# Altium schematic symbol library 10cl010eye144.SchLib: 2 symbols
Pins are listed as number, name and electrical type; pins without a type are passive.

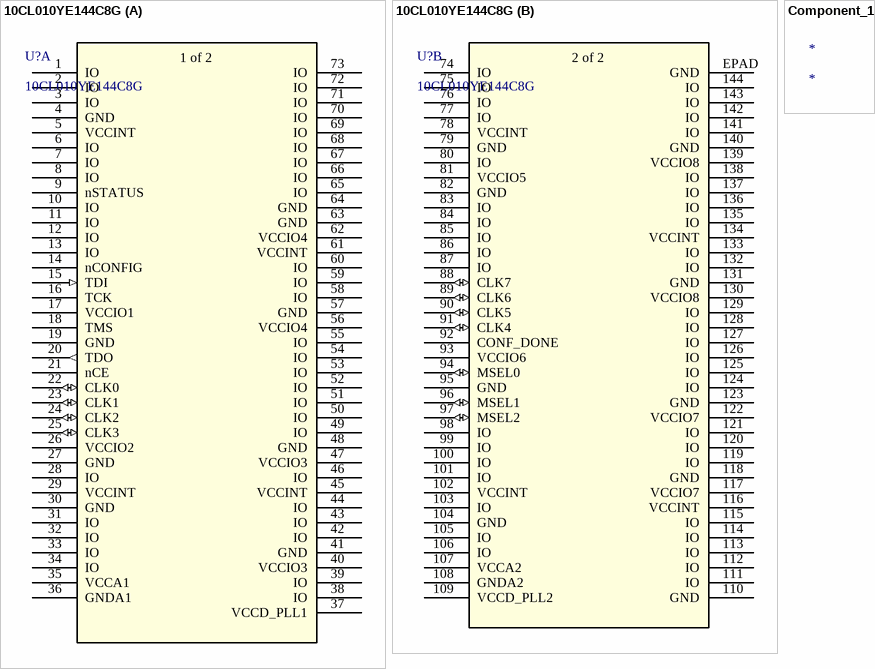
[diagram p0: symbols 10CL010YE144C8G to Component_1]

## 10CL010YE144C8G
designator U?
No Description Available; Vendor: Intel; Built_By: EMA_Cory; SourceLibrary: Intel_2020-07-08; Datasheet: https://www.mouser.com/datasheet/2/612/c10lp-51001-1114189.pdf; Manufacturer_Part_Number: 10CL010YE144C8G; Copyright: Copyright (C) 2018 Accelerated Designs. All rights reserved; RefDes: RefDes; Type: DEV
footprint EQFP144_A-1P65_D2-6P7_INT
part A pins: 1 IO, 2 IO, 3 IO, 4 GND, 5 VCCINT (power), 6 IO, 7 IO, 8 IO, 9 nSTATUS, 10 IO, 11 IO, 12 IO, 13 IO, 14 nCONFIG, 15 TDI (in), 16 TCK, 17 VCCIO1 (power), 18 TMS, 19 GND, 20 TDO (out), 21 nCE, 22 CLK0 (io), 23 CLK1 (io), 24 CLK2 (io), 25 CLK3 (io), 26 VCCIO2 (power), 27 GND, 28 IO, 29 VCCINT (power), 30 GND, 31 IO, 32 IO, 33 IO, 34 IO, 35 VCCA1 (power), 36 GNDA1, 37 VCCD_PLL1 (power), 38 IO, 39 IO, 40 VCCIO3 (power), 41 GND, 42 IO, 43 IO, 44 IO, 45 VCCINT (power), 46 IO, 47 VCCIO3 (power), 48 GND, 49 IO, 50 IO, 51 IO, 52 IO, 53 IO, 54 IO, 55 IO, 56 VCCIO4 (power), 57 GND, 58 IO, 59 IO, 60 IO, 61 VCCINT (power), 62 VCCIO4 (power), 63 GND, 64 GND, 65 IO, 66 IO, 67 IO, 68 IO, 69 IO, 70 IO, 71 IO, 72 IO, 73 IO
part B pins: 74 IO, 75 IO, 76 IO, 77 IO, 78 VCCINT (power), 79 GND, 80 IO, 81 VCCIO5 (power), 82 GND, 83 IO, 84 IO, 85 IO, 86 IO, 87 IO, 88 CLK7 (io), 89 CLK6 (io), 90 CLK5 (io), 91 CLK4 (io), 92 CONF_DONE, 93 VCCIO6 (power), 94 MSEL0 (io), 95 GND, 96 MSEL1 (io), 97 MSEL2 (io), 98 IO, 99 IO, 100 IO, 101 IO, 102 VCCINT (power), 103 IO, 104 GND, 105 IO, 106 IO, 107 VCCA2 (power), 108 GNDA2, 109 VCCD_PLL2 (power), 110 GND, 111 IO, 112 IO, 113 IO, 114 IO, 115 IO, 116 VCCINT (power), 117 VCCIO7 (power), 118 GND, 119 IO, 120 IO, 121 IO, 122 VCCIO7 (power), 123 GND, 124 IO, 125 IO, 126 IO, 127 IO, 128 IO, 129 IO, 130 VCCIO8 (power), 131 GND, 132 IO, 133 IO, 134 VCCINT (power), 135 IO, 136 IO, 137 IO, 138 IO, 139 VCCIO8 (power), 140 GND, 141 IO, 142 IO, 143 IO, 144 IO, EPAD GND
part A text: 1 of 2
part B text: 2 of 2

## Component_1
designator *